# Altium schematic symbol library ESE516A2.SchLib: 6 symbols
Pins are listed as number, name and electrical type; pins without a type are passive.

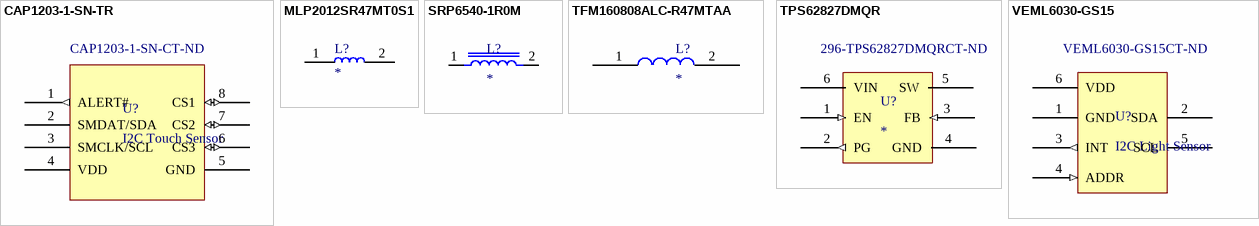
[diagram p0: symbols CAP1203-1-SN-TR to VEML6030-GS15]

## CAP1203-1-SN-TR
designator U?, comment I2C Touch Sensor  Supplier Part Number 1: CAP1203-1-SN-CT-ND
Sensor Controller Capacitive 3-CH I2C 8-Pin SOIC T/R; Manufacturer: Microchip; Manufacturer Part Number: CAP1203-1-SN-TR; Supplier 1: Digi-Key; RoHS: No; Category: Integrated Circuits (ICs); Stock 1: 7847; Pricing 1: 1=0.55000, 25=0.50000, 100=0.45000 (USD); ComponentLink1URL: http://www.microchip.com/mymicrochip/filehandler.aspx?ddocname=en566286&src-supplier=Digi-Key; ComponentLink1Description: http://www.microchip.com/mymicrochip/filehandler.aspx?ddocname=en566286&src-supplier=Digi-Key
footprint CAP1203-1-SN-TR (3-Channel Touch Sensor)
pins: 1 ALERT# (out), 2 SMDAT/SDA (oc), 3 SMCLK/SCL (oc), 4 VDD (power), 5 GND (power), 6 CS3 (io), 7 CS2 (io), 8 CS1 (io)

## MLP2012SR47MT0S1
designator L?
FIXED IND 470NH 1.2A 90 MOHM SMD; Manufacturer: TDK; MP: MLP2012SR47MT0S1; Core Material: Ferrite; Tolerance: 20%; DC Resistance (DCR): 117mR; Shielding: Shielded; Test Frequency: 2MHz; Package: None; Price: None; Value: *; Supplier 1: Digi-Key; Supplier Part Number 1: 445-6367-1-ND; Availability: Unavailable; Manufacturer Part Number: MLP2012SR47MT0S1; RoHS: Yes; Category: Fixed Inductors; Stock 1: 14052; Pricing 1: 1=0.33000, 10=0.29100, 25=0.25480, 50=0.21840, 100=0.20020, 250=0.18200, 500=0.17108, 1000=0.13104 (USD); Mount: Surface Mount; Case/Package: 0805; Case Code (Metric): 2012; Case Code (Imperial): 0805; Min Operating Temperature: -40°C; Max Operating Temperature: 125°C; Packaging: Tape and Reel; Inductance: 470nH; Package Quantity: 4000; Current Rating: 1.2A; Length: 0.079inch; Width: 0.049inch; Height - Seated (Max): 0.022inch; RoHS Compliant: Yes; ComponentLink1URL: https://product.tdk.com/info/en/catalog/datasheets/inductor_commercial_power_mlp2012_en.pdf?src-supplier=Digi-Key; ComponentLink1Description: https://product.tdk.com/info/en/catalog/datasheets/inductor_commercial_power_mlp2012_en.pdf?src-supplier=Digi-Key
footprint MLP2012SR47MT0S1
pins: 1, 2

## SRP6540-1R0M
designator L?
BOURNS - SRP6540-1R0M - Cewka mocy (SMD), 1 µH, 12 A, Osloniete, 13.5 A, Seria SRP6540, 7.2mm x 6.5mm x 4mm; Core Material: Ferrite; Inductance: 1uH; Tolerance: 20%; Shielding: Shielded; Current Rating: 12A; Saturation Current: 13.5A; DC Resistance (DCR): 7.2mR; Test Frequency: 100kHz; MF: Bourns; Purchase-URL: https://pricing.snapeda.com/search/part/SRP6540-1R0M/?ref=eda; SnapEDA_Link: https://www.snapeda.com/parts/SRP6540-1R0M/Bourns/view-part/1499791/?ref=snap; MP: SRP6540-1R0M; Price: None; Package: Nonstandard Bourns; Check_prices: https://www.snapeda.com/parts/SRP6540-1R0M/Bourns/view-part/1499791/?ref=eda; Value: *; Availability: Good; Supplier 1: Digi-Key; Supplier Part Number 1: SRP6540-1R0MCT-ND; Manufacturer: Bourns; Manufacturer Part Number: SRP6540-1R0M; RoHS: Yes; Category: Fixed Inductors; Stock 1: 72210; Pricing 1: 1=1.36000, 10=1.26300, 25=1.16560, 50=0.97120, 100=0.91300, 250=0.81584, 500=0.69930 (USD); Mount: Surface Mount; Case/Package: 2826; Number of Pins: 2; Material: Ferrite; Min Operating Temperature: -55°C; Max Operating Temperature: 125°C; Packaging: Tape and Reel; Package Quantity: 1200; Inductance Tolerance: 20%; Resistor Type: Wirewound; Max DC Current: 12A; Termination: SMD/SMT; RMS Current (Irms): 12A; Self Resonant Frequency: 100kHz; Series: SRP6540; Sample Rate (Hz): 100kHz; Length: 7.2mm; Width: 6.5mm; Height: 4mm; Height - Seated (Max): 0.157inch; Depth: 6.7mm; REACH SVHC: No SVHC; Military Standard: Not; RoHS Compliant: Yes; ComponentLink1URL: https://datasheet.ciiva.com/28679/1698468-28679543.pdf?src-supplier=Element14; ComponentLink1Description: https://datasheet.ciiva.com/28679/1698468-28679543.pdf?src-supplier=Element14; ComponentLink2URL: https://datasheet.ciiva.com/22667/1698468-22667145.pdf?src-supplier=Element14; ComponentLink2Description: https://datasheet.ciiva.com/22667/1698468-22667145.pdf?src-supplier=Element14; ComponentLink3URL: https://datasheet.ciiva.com/17052/70281705-17052171.pdf?src-supplier=Allied+Electronics; ComponentLink3Description: https://datasheet.ciiva.com/17052/70281705-17052171.pdf?src-supplier=Allied+Electronics
footprint SRP6540-1R0M
pins: 1, 2

## TFM160808ALC-R47MTAA
designator L?
Inductor Power Shielded Thin Film 0.47uH 20% 1MHz Metal 2.6A 0.062Ohm DCR 0603 T/R; Manufacturer: TDK; Manufacturer Part Number: TFM160808ALC-R47MTAA; Inductance: 470nH; Current Rating: 2.7A; Saturation Current: 2A; DC Resistance (DCR): 62mR; Supplier 1: Digi-Key; RoHS: Yes; Category: Fixed Inductors; Stock 1: 1133; Pricing 1: 1=0.43000, 10=0.38000, 25=0.33240, 50=0.28500, 100=0.26120, 250=0.23752, 500=0.22324, 1000=0.17100 (USD); Mount: Surface Mount; Case/Package: 0603; Core Material: Metal; Case Code (Imperial): 0603; Case Code (Metric): 1608; Resistor Type: Thin Film; Packaging: Cut Tape; Tolerance: 20%; Shielding: Shielded; Test Frequency: 1MHz; RoHS Compliant: Yes; ComponentLink1URL: https://product.tdk.com/info/en/catalog/datasheets/inductor_commercial_power_tfm160808alc_en.pdf?src-supplier=Digi-Key; ComponentLink1Description: https://product.tdk.com/info/en/catalog/datasheets/inductor_commercial_power_tfm160808alc_en.pdf?src-supplier=Digi-Key; Supplier Part Number 1: 445-174891-1-ND
footprint RESC0603X55N
pins: 1, 2

## TPS62827DMQR
designator U?  Supplier Part Number 1: 296-TPS62827DMQRCT-ND
2.4V-5.5V input, 4A step-down converter with 1% Accuracy in 1.5mm x 1.5mm QFN 6-VSON-HR -40 to 125; Manufacturer: Texas Instruments; Manufacturer Part Number: TPS62827DMQR; Supplier 1: Digi-Key; RoHS: Yes; Category: Voltage Regulators - Switching; Pricing 1: 1=1.93000, 10=1.73000, 25=1.63240, 100=1.30590, 250=1.14268, 500=1.11004, 1000=0.88150 (USD); RoHS Compliant: Yes
footprint Texas_Instruments_DMQ0006A_MFG
pins: 1 EN (in), 2 PG (out), 3 FB (in), 4 GND (power), 5 SW (power), 6 VIN (power)

## VEML6030-GS15
designator U?, comment I2C Light Sensor  Supplier Part Number 1: VEML6030-GS15CT-ND
HIGH ACCURACY AMBIENT LIGHT SENS; Manufacturer: Vishay Semiconductors; Manufacturer Part Number: VEML6030-GS15; Wavelength: 550nm; Supplier 1: Digi-Key; RoHS: Yes; Category: Sensors; Stock 1: 1378; Pricing 1: 1=2.00000, 5=1.89000, 10=1.62000, 25=1.29600, 50=1.18800, 100=1.08000, 500=0.94500, 1000=0.83700, 5000=0.78300 (USD); Mount: Surface Mount; Case/Package: SMD/SMT; Min Operating Temperature: -25°C; Max Operating Temperature: 85°C; Output Type: I2C; Packaging: Tape and Reel; RoHS Compliant: Yes; ComponentLink1URL: http://www.vishay.com/docs/84366/veml6030.pdf?src-supplier=Digi-Key; ComponentLink1Description: http://www.vishay.com/docs/84366/veml6030.pdf?src-supplier=Digi-Key
footprint CAC-65P200X200-6N (Chip Array, Concave, 6-Leads, Pitch 0.65mm,  Body 2.00x2.00mm,  IPC Medium Density)
pins: 1 GND (power), 2 SDA (oc), 3 INT (out), 4 ADDR (in), 5 SCL (oc), 6 VDD (power)